# EAGLE library part ?M06B-SR (library con-jst)
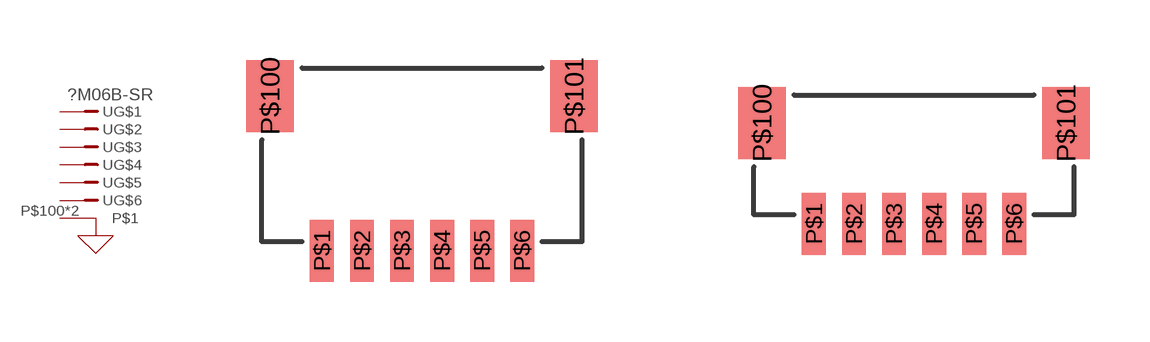
[diagram p25: symbol with the pads of SM06B-SR; footprints SM06B-SR, BM06B-SR]

Designator prefix -; gates G$1=PM-VN G$2=PM-N G$3=PM-N G$4=PM-N G$5=PM-N G$6=PM-N G$7=FRAME

## SM06B-SR  [SM06B-SR]
P$1  G$1:1  pas
P$2  G$2:1  pas
P$3  G$3:1  pas
P$4  G$4:1  pas
P$5  G$5:1  pas
P$6  G$6:1  pas
P$100  G$7:P$1
P$101  G$7:P$1

## BM06B-SR  [BM06B-SR]
Pads as for SM06B-SR

## Footprint SM06B-SR (pad centres in mm)
smd 0.6 x 1.55: P$1 -2.5,-4.775; P$2 -1.5,-4.775; P$3 -0.5,-4.775; P$4 0.5,-4.775; P$5 1.5,-4.775; P$6 2.5,-4.775
smd 1.2 x 1.8: P$100 -3.8,-0.9; P$101 3.8,-0.9

## Footprint BM06B-SR (pad centres in mm)
smd 0.6 x 1.55: P$1 -2.5,-3.425; P$2 -1.5,-3.425; P$3 -0.5,-3.425; P$4 0.5,-3.425; P$5 1.5,-3.425; P$6 2.5,-3.425
smd 1.2 x 1.8: P$100 -3.8,-0.9; P$101 3.8,-0.9